# Altium schematic symbol library AMP.SchLib: 13 symbols
Pins are listed as number, name and electrical type; pins without a type are passive.

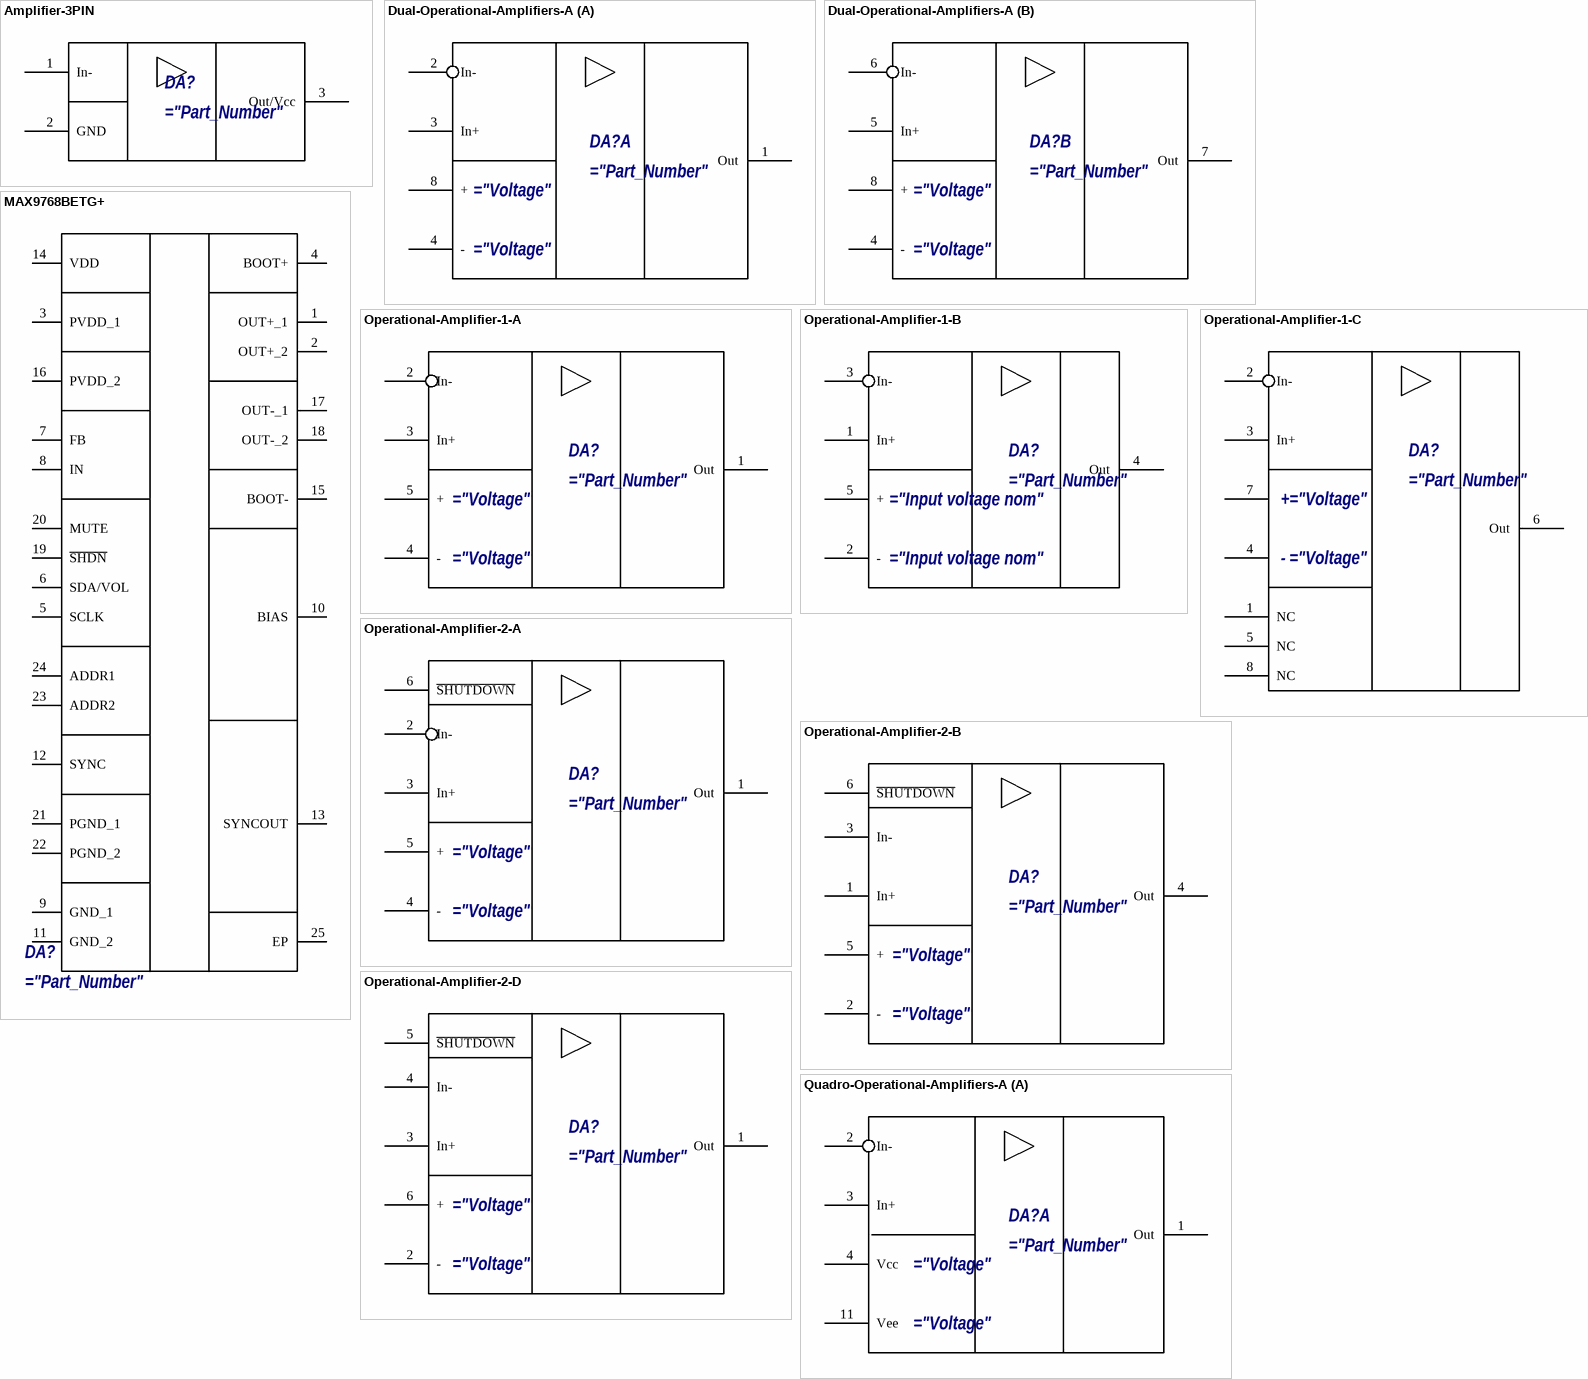
[diagram p0: symbols Amplifier-3PIN to Quadro-Operational-Amplifiers-A]

## Amplifier-3PIN
designator DA?
="Description"
pins: 1 In-, 2 GND, 3 Out/Vcc

## Dual-Operational-Amplifiers-A
designator DA?
="Description"
part A pins: 1 Out, 2 In-, 3 In+, 4 -, 8 +
part B pins: 4 -, 5 In+, 6 In-, 7 Out, 8 +

## MAX9768BETG+
designator DA?
="Description"
pins: 1 OUT+_1, 2 OUT+_2, 3 PVDD_1, 4 BOOT+, 5 SCLK, 6 SDA/VOL, 7 FB, 8 IN, 9 GND_1, 10 BIAS, 11 GND_2, 12 SYNC, 13 SYNCOUT, 14 VDD, 15 BOOT-, 16 PVDD_2, 17 OUT-_1, 18 OUT-_2, 19 ~{SHDN}, 20 MUTE, 21 PGND_1, 22 PGND_2, 23 ADDR2, 24 ADDR1, 25 EP

## Operational-Amplifier-1-A
designator DA?
="Description"
pins: 1 Out, 2 In-, 3 In+, 4 -, 5 +

## Operational-Amplifier-1-B
designator DA?
="Description"
pins: 1 In+, 2 -, 3 In-, 4 Out, 5 +

## Operational-Amplifier-1-C
designator DA?
="Description"
pins: 1 NC, 2 In-, 3 In+, 4 Vee, 5 NC, 6 Out, 7 Vcc, 8 NC
text: +; -

## Operational-Amplifier-2-A
designator DA?
="Description"
pins: 1 Out, 2 In-, 3 In+, 4 -, 5 +, 6 ~{SHUTDOWN}

## Operational-Amplifier-2-B
designator DA?
="Description"
pins: 1 In+, 2 -, 3 In-, 4 Out, 5 +, 6 ~{SHUTDOWN}

## Operational-Amplifier-2-D
designator DA?
="Description"
pins: 1 Out, 2 -, 3 In+, 4 In-, 5 ~{SHUTDOWN}, 6 +

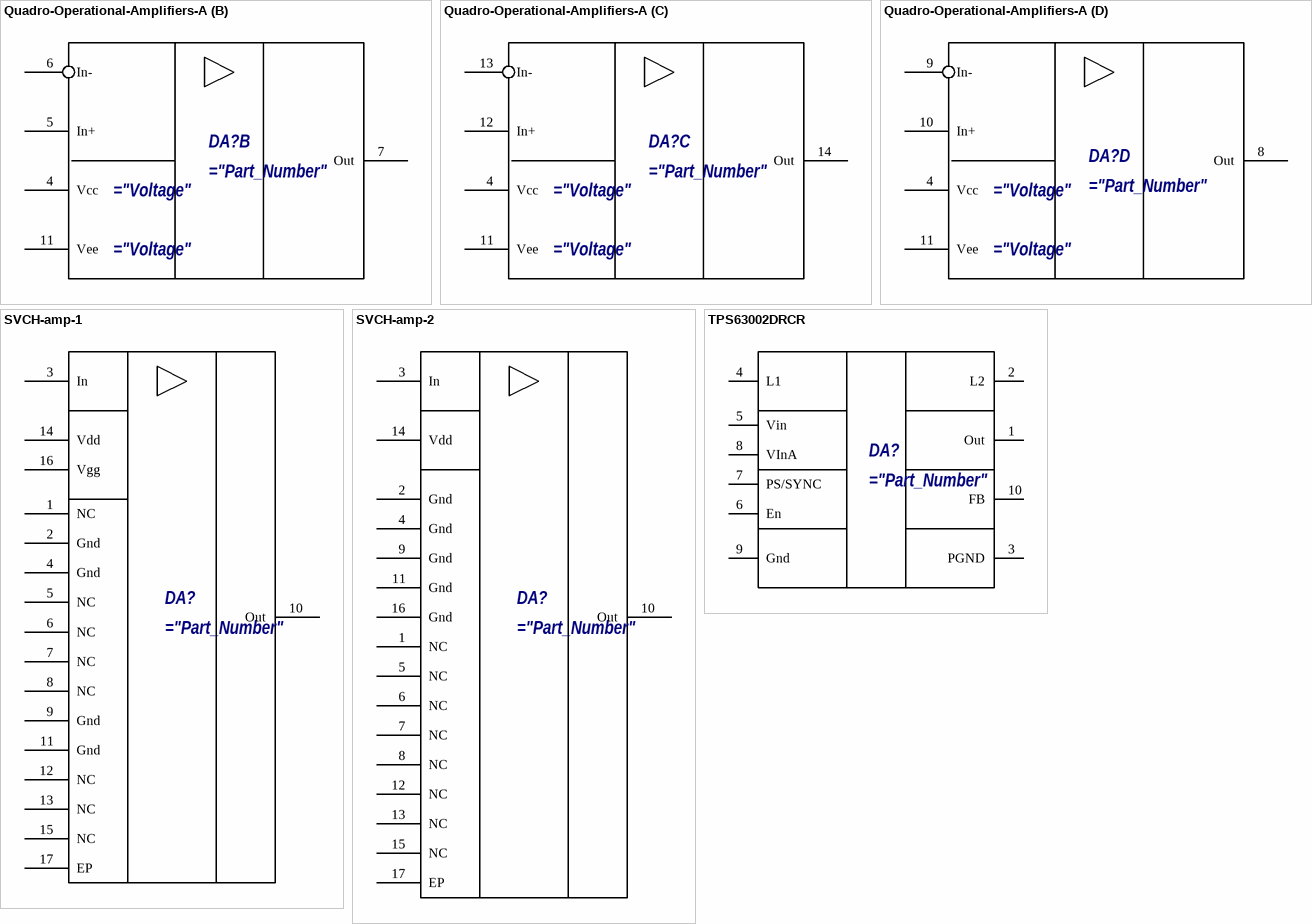
[diagram p1: symbols Quadro-Operational-Amplifiers-A to TPS63002DRCR]

## Quadro-Operational-Amplifiers-A
designator DA?
="Description"
part A pins: 1 Out, 2 In-, 3 In+, 4 Vcc, 11 Vee
part B pins: 4 Vcc, 5 In+, 6 In-, 7 Out, 11 Vee
part C pins: 4 Vcc, 11 Vee, 12 In+, 13 In-, 14 Out
part D pins: 4 Vcc, 8 Out, 9 In-, 10 In+, 11 Vee

## SVCH-amp-1
designator DA?
="Description"
pins: 1 NC, 2 Gnd, 3 In, 4 Gnd, 5 NC, 6 NC, 7 NC, 8 NC, 9 Gnd, 10 Out, 11 Gnd, 12 NC, 13 NC, 14 Vdd, 15 NC, 16 Vgg, 17 EP "Exposed Pad"

## SVCH-amp-2
designator DA?
="Description"
pins: 1 NC, 2 Gnd, 3 In, 4 Gnd, 5 NC, 6 NC, 7 NC, 8 NC, 9 Gnd, 10 Out, 11 Gnd, 12 NC, 13 NC, 14 Vdd, 15 NC, 16 Gnd, 17 EP "Exposed Pad"

## TPS63002DRCR
designator DA?
="Description"
pins: 1 Out, 2 L2, 3 PGND, 4 L1, 5 Vin, 6 En, 7 PS/SYNC, 8 VInA, 9 Gnd, 10 FB